# Altium footprint library SX1308_GTW_e381v02c.PcbLib: 73 footprints (part 1 of 5)
Each footprint in its own frame and in the unit in brackets; x right, y up, seen from the top. Pads: shape width x height; smd on the part's side, far side on the other; paste and mask are expansions set on the pad; w line width, h text height; cw(c..) or ccw(c..) is an arc to the next point about the centre after c.
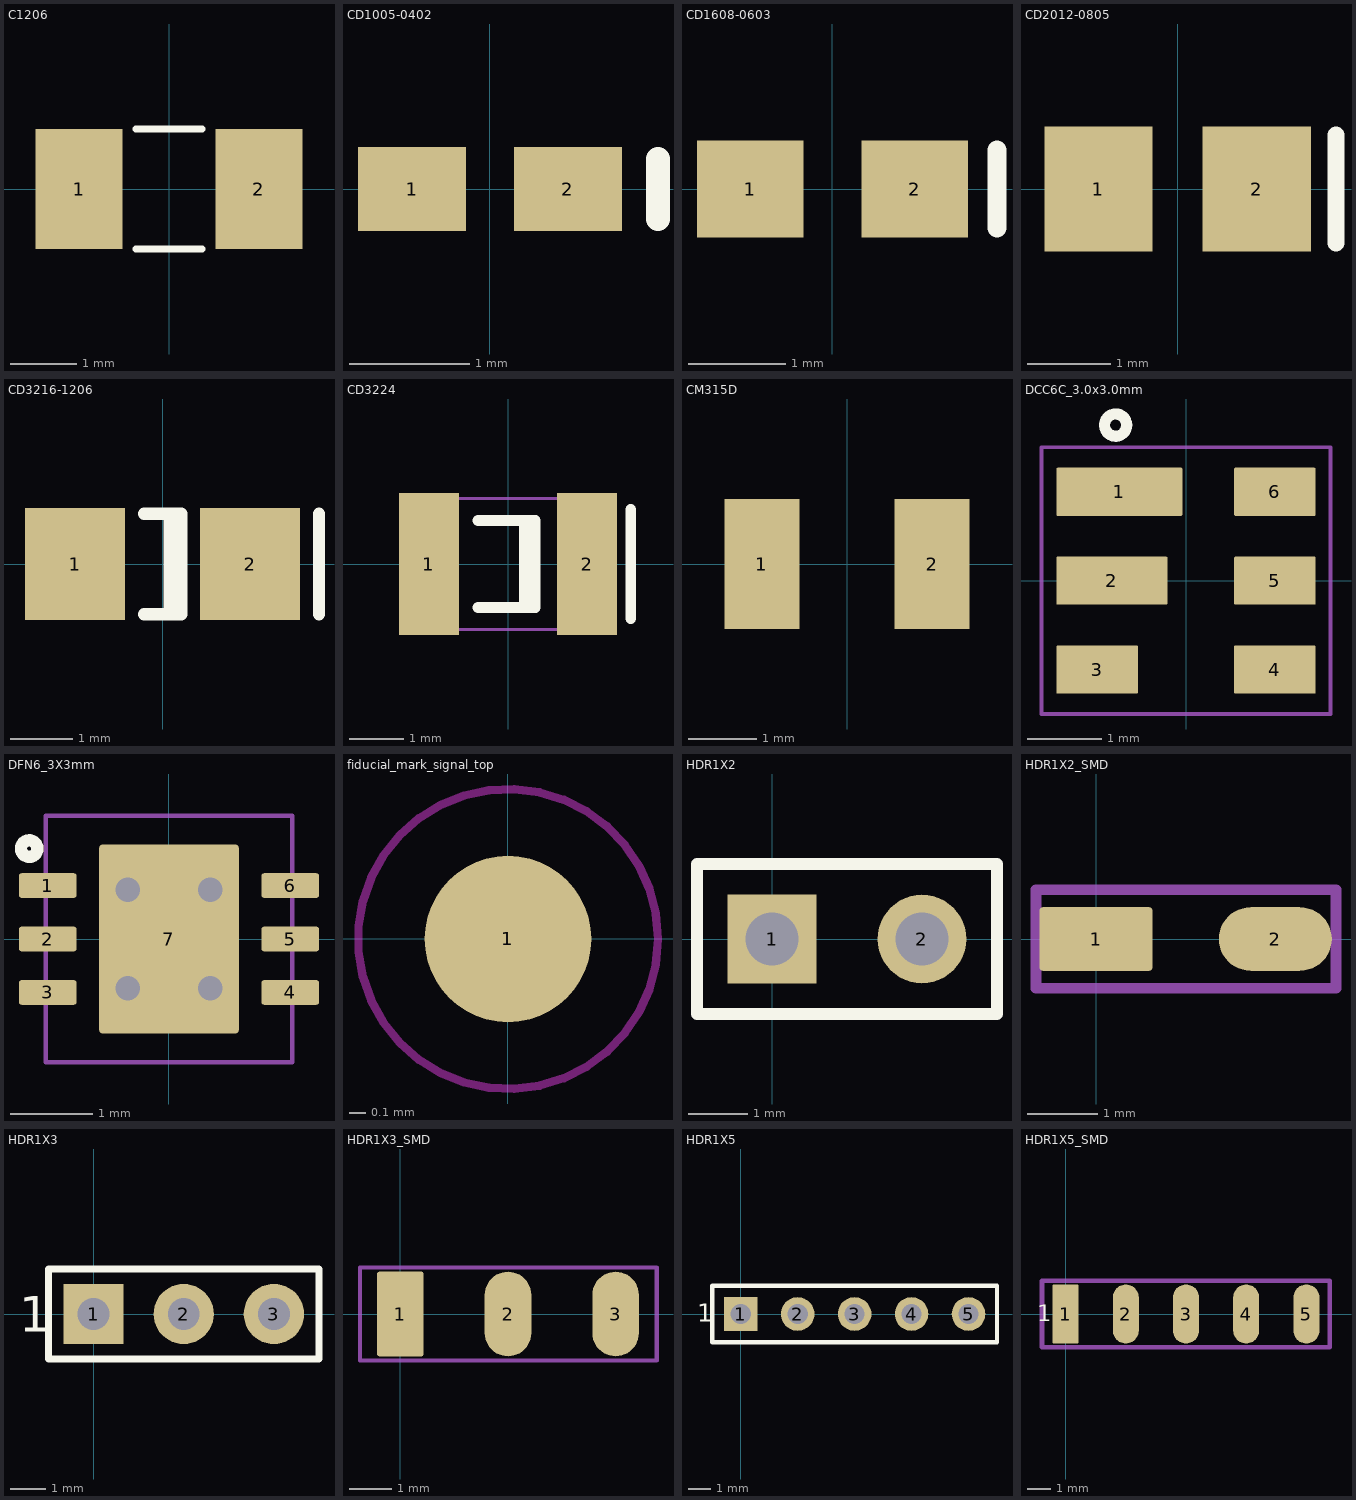
[diagram p0: the footprints below, top view; thin cyan lines are the x and y axes]

## C1206 [mm] "C1206"
height 1
pads (2):
  rect 1.3x1.801 smd mask+0.05: 1(-1.35,0) 2(1.35,0)
Top Overlay:
  lines w0.1: -0.5,-0.9 0.5,-0.9 ; -0.5,0.9 0.5,0.9

## CD1005-0402 [mm] "Chip Diode; Body 1.0 x 0.5 mm (LxW typ)"
height 0.6
pads (2):
  rect 0.9x0.7 smd mask+0.05: 1(-0.65,0) 2(0.65,0)
Top Overlay:
  lines w0.2: 1.4,-0.25 1.4,0.25

## CD1608-0603 [mm] "Chip Diode; Body 1.6 x 0.8 mm (LxW typ)"
height 0.85
pads (2):
  rect 1.1x1 smd mask+0.05: 1(-0.85,0) 2(0.85,0)
Top Overlay:
  lines w0.2: 1.7,-0.4 1.7,0.4

## CD2012-0805 [mm] "Chip Diode; Body 2.0 x 1.3 mm (LxW typ)"
height 1.1
pads (2):
  rect 1.3x1.5 smd mask+0.05: 1(-0.95,0) 2(0.95,0)
Top Overlay:
  lines w0.2: 1.9,-0.65 1.9,0.65

## CD3216-1206 [mm] "Chip Diode; Body 3.2 x 1.6 mm (LxW typ)"
height 1.35
pads (2):
  rect 1.6x1.8 smd mask+0.05: 1(-1.4,0) 2(1.4,0)
Top Overlay:
  lines w0.2: -0.3,-0.8 0.3,-0.8 0.3,0.8 -0.3,0.8 ; 0.11,-0.8 0.11,0.8 ; 2.5,-0.8 2.5,0.8

## CD3224 [mm] "Chip Diode; Body 3.2 x 2.4mm (LxW typ)"
height 1.35
pads (2):
  rect 1.1x2.6 smd mask+0.05: 1(-1.45,0) 2(1.45,0)
Top Overlay:
  lines w0.2: -0.55,-0.8 0.5,-0.8 0.5,0.8 -0.55,0.8 ; 0.3,-0.8 0.3,0.8 ; 2.25,-1 2.25,1
Mechanical 15:
  lines w0.05: -1.6,-1.2 1.6,-1.2 1.6,1.2 -1.6,1.2 -1.6,-1.2

## CM315D [mm] "CM315D; 3.2x1.5mm package"
height 1
pads (2):
  rect 1.1x1.9 smd mask+0.05: 1(-1.25,0) 2(1.25,0)
3D body: height 0.8, standoff 0.2, extent -1.6,-0.75 1.6,0.75

## DCC6C_3.0x3.0mm [mm] "DCC6C footprint, 3.0x3.0mm"
height 1.1
pads (6):
  rrect5% 1.7x0.65 smd mask+0.05: 1(-0.9,1.2)
  rrect5% 1.5x0.65 smd mask+0.05: 2(-1,0)
  rrect5% 1.1x0.65 smd mask+0.05: 3(-1.2,-1.2) 4(1.2,-1.2) 5(1.2,0) 6(1.2,1.2)
Top Overlay:
  circle w0.15: c-0.95,2.1 r0.15
Mechanical 15:
  lines w0.05: -1.95,-1.8 1.95,-1.8 1.95,1.8 -1.95,1.8 -1.95,-1.8
3D body: height 1, standoff 0, extent -1.5,-1.5 1.5,1.5

## DFN6_3X3mm [mm] "6 Leads, Body 6x3mm, pitch 0.65mm, DFN6"
height 0.8
pads (7):
  rrect20% 0.7x0.3 smd paste+0 mask+0.05: 1(-1.475,0.65) 2(-1.475,0) 3(-1.475,-0.65) 4(1.475,-0.65) 5(1.475,0) 6(1.475,0.65)
  rrect5% 1.7x2.3 smd paste-2 mask+0.05: 7(0,0)
via 0.5,0.6 diameter 0.6 hole 0.3
via -0.5,0.6 diameter 0.6 hole 0.3
via 0.5,-0.6 diameter 0.6 hole 0.3
via -0.5,-0.6 diameter 0.6 hole 0.3
Top Overlay:
  circle w0.15: c-1.7,1.1 r0.1
Top Paste:
  region: -0.2,-0.5 -0.2,-1.1 0.2,-1.1 0.2,-0.5
  region: -0.2,1.1 -0.2,0.5 0.2,0.5 0.2,1.1
  region: 0.2,-0.5 0.8,-0.5 0.8,0.5 0.2,0.5
  region: -0.8,-0.5 -0.2,-0.5 -0.2,0.5 -0.8,0.5
Mechanical 15:
  lines w0.05: -1.5,-1.5 -1.5,1.5 1.5,1.5 1.5,-1.5 -1.5,-1.5
3D body: height 1, standoff 0, extent -1.5,-1.5 1.5,1.5

## fiducial_mark_signal_top [mm] "Fiducial mark for automatic assembly"
height 1
pads (1):
  round 1 smd paste-2 mask+0.5: 1(0,0)
Top Layer keep-out:
  circle w0.05: c0,0 r0.9

## HDR1X2 [mm] "Connector; Header; 2 Position"
pads (2):
  rect 1.5x1.5 hole 0.9: 1(0,0)
  round 1.5 hole 0.9: 2(2.54,0)
Top Overlay:
  lines w0.2: -1.27,-1.27 -1.27,1.27 3.81,1.27 3.81,-1.27 -1.27,-1.27

## HDR1X2_SMD [mm] "Connector; Header; 2 Position; SMD"
pads (2):
  rrect10% 1.6x0.9 smd mask+0.05: 1(0,0)
  oval 1.6x0.9 smd mask+0.05: 2(2.54,0)
Mechanical 15:
  lines w0.15: -0.85,-0.7 -0.85,0.7 3.4,0.7 3.4,-0.7 -0.85,-0.7

## HDR1X3 [mm] "Connector; Header; 3 Position"
pads (3):
  rect 1.7x1.7 hole 0.9: 1(0,0)
  round 1.7 hole 0.9: 2(2.54,0) 3(5.08,0)
Top Overlay:
  lines w0.2: -1.27,-1.27 -1.27,1.27 6.35,1.27 6.35,-1.27 -1.27,-1.27
  text "1" at -2.1,-0.5 h1

## HDR1X3_SMD [mm] "Connector; Header; 3 Position; SMD"
pads (3):
  rrect10% 1.1x2 smd paste-3 mask+0.05: 1(0,0)
  oval 1.1x2 smd paste-3 mask+0.05: 2(2.54,0) 3(5.08,0)
Mechanical 15:
  lines w0.1: -0.95,-1.1 6.05,-1.1 6.05,1.1 -0.95,1.1 -0.95,-1.1

## HDR1X5 [mm] "Connector; Header; 5 Position"
pads (5):
  rect 1.5x1.5 hole 0.9: 1(0,0)
  round 1.5 hole 0.9: 2(2.54,0) 3(5.08,0) 4(7.62,0) 5(10.16,0)
Top Overlay:
  lines w0.2: -1.27,-1.27 -1.27,1.27 11.43,1.27 11.43,-1.27 -1.27,-1.27
  text "1" at -1.95,-0.35 h0.8

## HDR1X5_SMD [mm] "Connector; Header; 5 Position; SMD"
height 10
pads (5):
  rrect10% 1.1x2.5 smd paste-3 mask+0.05: 1(0,0)
  oval 1.1x2.5 smd paste-3 mask+0.05: 2(2.54,0) 3(5.08,0) 4(7.62,0) 5(10.16,0)
Top Overlay:
  text "1" at -1.2,-0.3 h0.7
Mechanical 15:
  lines w0.2: -1,-1.4 -1,1.4 11.15,1.4 11.15,-1.4 -1,-1.4